# EAGLE library part TS3USB221 (library texas-instruments)
HIGH-SPEED USB 2.0 MUX SWITCH
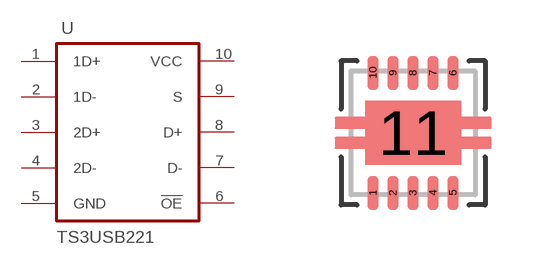
[diagram p8: symbol with the pads of SON10; footprint SON10]

Designator prefix U

## TS3USB221DRC (P1I: o)  [SON10]
1  1D+
2  1D-
3  2D+
4  2D-
5  GND  pwr
6  !OE!
7  D-
8  D+
9  S  in
10  VCC  pwr

## Footprint SON10 (pad centres in mm)
SON 10 DRC (S-PVSON-N10)
smd 0.28 x 0.85: 1 -1,-1.5; 2 -0.5,-1.5; 3 0,-1.5; 4 0.5,-1.5; 5 1,-1.5; 6 1,1.5; 7 0.5,1.5; 8 0,1.5; 9 -0.5,1.5; 10 -1,1.5
smd 2.4 x 1.6: 11 0,0